# Altium schematic symbol library deneme_yedek.SchLib: 13 symbols
Pins are listed as number, name and electrical type; pins without a type are passive.

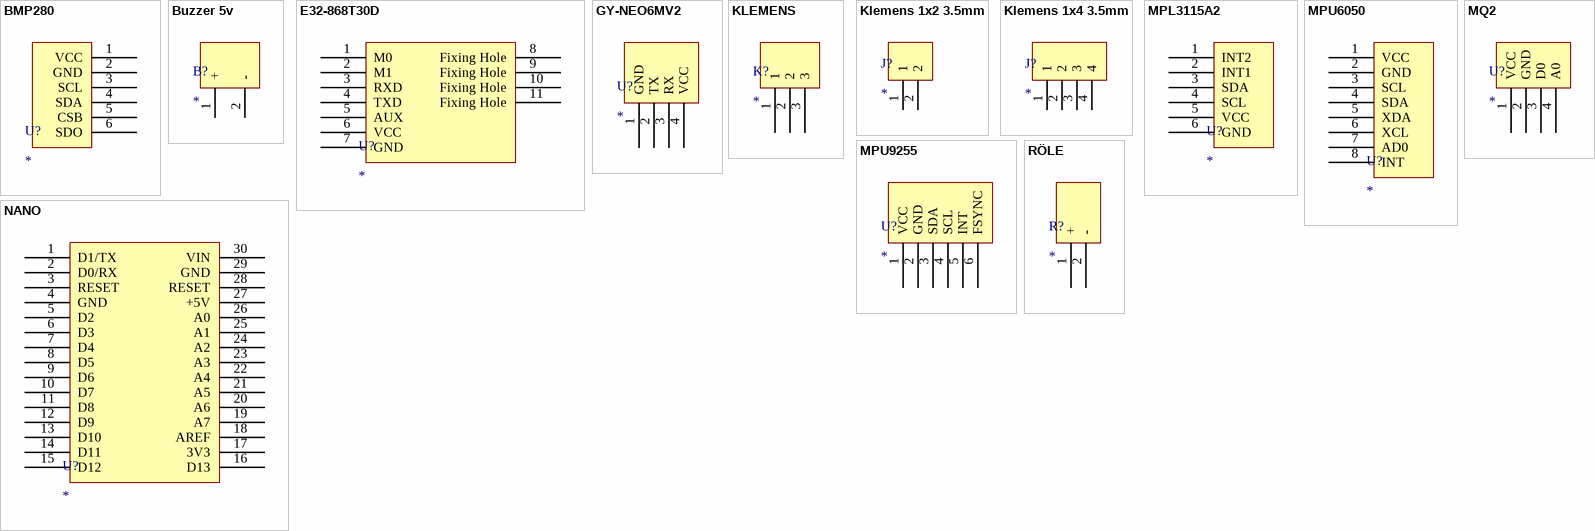
[diagram p0: symbols BMP280 to RÖLE]

## BMP280
designator U?
footprint BMP280
pins: 1 VCC, 2 GND, 3 SCL, 4 SDA, 5 CSB, 6 SDO

## Buzzer 5v
designator B?
Buzzer 5v
footprint Buzzer 5v
pins: 1 +, 2 -

## E32-868T30D
designator U?
footprint E32-868T30D
pins: 1 M0, 2 M1, 3 RXD, 4 TXD, 5 AUX, 6 VCC, 7 GND, 8 Fixing Hole, 9 Fixing Hole, 10 Fixing Hole, 11 Fixing Hole

## GY-NEO6MV2
designator U?
footprint GY-NEO6MV2
pins: 1 GND, 2 TX, 3 RX, 4 VCC

## KLEMENS
designator K?
footprint KLEMENS
pins: 1, 2, 3

## Klemens 1x2 3.5mm
designator J?
Klemens 1x2 3.5mm
footprint Klemens 1x2 - 3.5mm
pins: 1, 2

## Klemens 1x4 3.5mm
designator J?
Klemens 1x2 3.5mm
footprint Klemens 1x4 - 3.5mm
pins: 1, 2, 3, 4

## MPL3115A2
designator U?
footprint MPL3115A2
pins: 1 INT2, 2 INT1, 3 SDA, 4 SCL, 5 VCC, 6 GND

## MPU6050
designator U?
footprint MPU6050
pins: 1 VCC, 2 GND, 3 SCL, 4 SDA, 5 XDA, 6 XCL, 7 AD0, 8 INT

## MPU9255
designator U?
footprint MPU9255
pins: 1 VCC, 2 GND, 3 SDA, 4 SCL, 5 INT, 6 FSYNC

## MQ2
designator U?
footprint MQ2
pins: 1 VCC, 2 GND, 3 D0, 4 A0

## NANO
designator U?
footprint nano
pins: 1 D1/TX, 2 D0/RX, 3 RESET, 4 GND, 5 D2, 6 D3, 7 D4, 8 D5, 9 D6, 10 D7, 11 D8, 12 D9, 13 D10, 14 D11, 15 D12, 16 D13, 17 3V3, 18 AREF, 19 A7, 20 A6, 21 A5, 22 A4, 23 A3, 24 A2, 25 A1, 26 A0, 27 +5V, 28 RESET, 29 GND, 30 VIN

## RÖLE
designator R?
footprint RÖLE
pins: 1 +, 2 -